# Altium footprint library 101278200821LF.PcbLib: 1 footprints
Each footprint in its own frame and in the unit in brackets; x right, y up, seen from the top. Pads: shape width x height; smd on the part's side, far side on the other; paste and mask are expansions set on the pad; w line width, h text height; cw(c..) or ccw(c..) is an arc to the next point about the centre after c.
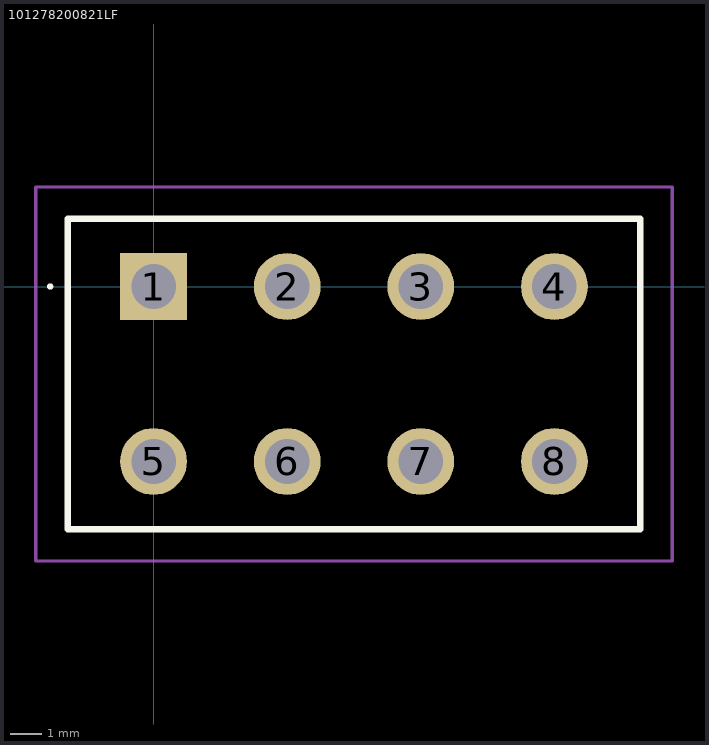
[diagram p0: the footprint, top view; thin cyan lines are the x and y axes]

## 101278200821LF [mm]
pads (8):
  rect 2.1x2.1 hole 1.4: 1(0,0)
  round 2.1 hole 1.4: 2(4.2,0) 3(8.4,0) 4(12.6,0) 5(0,-5.5) 6(4.2,-5.5) 7(8.4,-5.5) 8(12.6,-5.5)
Top Overlay:
  lines w0.1: -3.3,0 cw(c-3.25,0) -3.2,0 ; -3.3,0 -3.3,0 ; -3.3,0 ccw(c-3.25,0) -3.2,0 ; -3.2,0 -3.2,0
  lines w0.2: -2.7,-7.625 15.3,-7.625 15.3,2.125 -2.7,2.125 -2.7,-7.625
Mechanical 15:
  lines w0.1: -2.7,-7.625 15.3,-7.625 15.3,2.125 -2.7,2.125 -2.7,-7.625
Mechanical 20:
  lines w0.1: -3.7,-8.625 16.3,-8.625 16.3,3.125 -3.7,3.125 -3.7,-8.625